# Altium schematic symbol library Schlib1.SchLib: 9 symbols
Pins are listed as number, name and electrical type; pins without a type are passive.

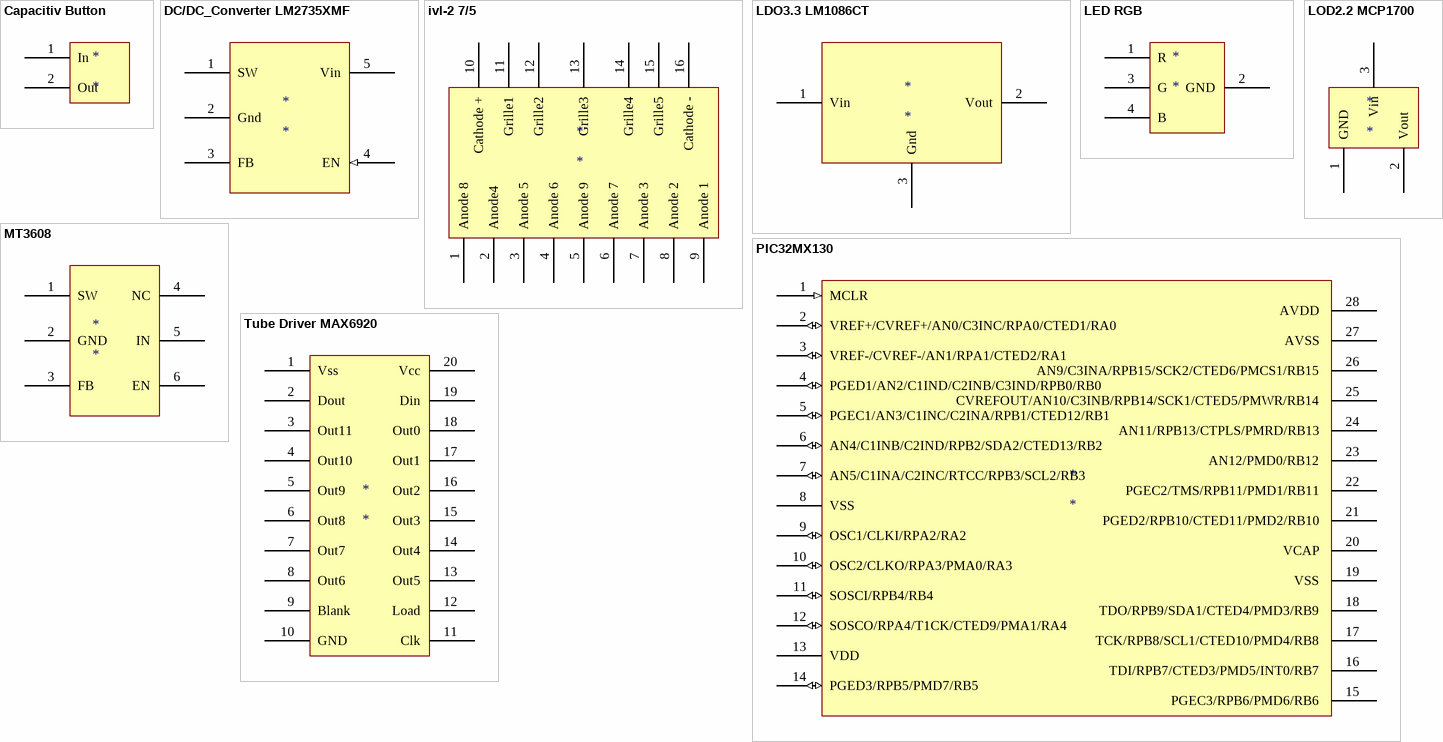
[diagram p0: symbols Capacitiv Button to Tube Driver MAX6920]

## Capacitiv Button
designator *
pins: 1 In, 2 Out

## DC/DC_Converter LM2735XMF
designator *
pins: 1 SW, 2 Gnd, 3 FB, 4 EN (in), 5 Vin

## ivl-2 7/5
designator *
pins: 1 Anode 8, 2 Anode4, 3 Anode 5, 4 Anode 6, 5 Anode 9, 6 Anode 7, 7 Anode 3, 8 Anode 2, 9 Anode 1, 10 Cathode +, 11 Grille1, 12 Grille2, 13 Grille3, 14 Grille4, 15 Grille5, 16 Cathode -

## LDO3.3 LM1086CT
designator *
LM1086CT
pins: 1 Vin, 2 Vout, 3 Gnd

## LED RGB
designator *
pins: 1 R, 2 GND, 3 G, 4 B

## LOD2.2 MCP1700
designator *
pins: 1 GND, 2 Vout, 3 Vin

## MT3608
designator *
pins: 1 SW, 2 GND, 3 FB, 4 NC, 5 IN, 6 EN

## PIC32MX130
designator *
pins: 1 MCLR (in), 2 VREF+/CVREF+/AN0/C3INC/RPA0/CTED1/RA0 (io), 3 VREF-/CVREF-/AN1/RPA1/CTED2/RA1 (io), 4 PGED1/AN2/C1IND/C2INB/C3IND/RPB0/RB0 (io), 5 PGEC1/AN3/C1INC/C2INA/RPB1/CTED12/RB1 (io), 6 AN4/C1INB/C2IND/RPB2/SDA2/CTED13/RB2 (io), 7 AN5/C1INA/C2INC/RTCC/RPB3/SCL2/RB3  (io), 8 VSS, 9 OSC1/CLKI/RPA2/RA2  (io), 10 OSC2/CLKO/RPA3/PMA0/RA3 (io), 11 SOSCI/RPB4/RB4 (io), 12 SOSCO/RPA4/T1CK/CTED9/PMA1/RA4 (io), 13 VDD, 14 PGED3/RPB5/PMD7/RB5  (io), 15 PGEC3/RPB6/PMD6/RB6 , 16 TDI/RPB7/CTED3/PMD5/INT0/RB7 , 17 TCK/RPB8/SCL1/CTED10/PMD4/RB8 , 18 TDO/RPB9/SDA1/CTED4/PMD3/RB9 , 19 VSS , 20 VCAP , 21 PGED2/RPB10/CTED11/PMD2/RB10 , 22 PGEC2/TMS/RPB11/PMD1/RB11 , 23 AN12/PMD0/RB12 , 24 AN11/RPB13/CTPLS/PMRD/RB13 , 25 CVREFOUT/AN10/C3INB/RPB14/SCK1/CTED5/PMWR/RB14 , 26 AN9/C3INA/RPB15/SCK2/CTED6/PMCS1/RB15 , 27 AVSS , 28 AVDD 

## Tube Driver MAX6920
designator *
pins: 1 Vss, 2 Dout, 3 Out11, 4 Out10, 5 Out9, 6 Out8, 7 Out7, 8 Out6, 9 Blank, 10 GND, 11 Clk, 12 Load, 13 Out5, 14 Out4, 15 Out3, 16 Out2, 17 Out1, 18 Out0, 19 Din, 20 Vcc